# Altium schematic symbol library RF-CA-C03.SchLib: 1 symbol
Pins are listed as number, name and electrical type; pins without a type are passive.

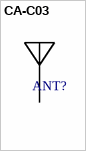
[diagram p0: symbol CA-C03]

## CA-C03
designator ANT?
pins: 1